# Altium footprint library 1935161.PcbLib: 1 footprints
Each footprint in its own frame and in the unit in brackets; x right, y up, seen from the top. Pads: shape width x height; smd on the part's side, far side on the other; paste and mask are expansions set on the pad; w line width, h text height; cw(c..) or ccw(c..) is an arc to the next point about the centre after c.
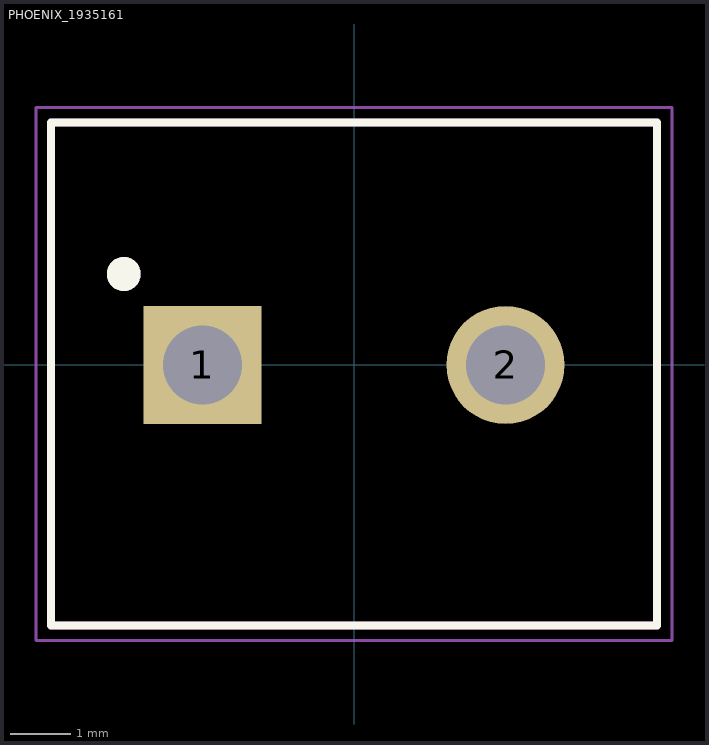
[diagram p0: the footprint, top view; thin cyan lines are the x and y axes]

## PHOENIX_1935161 [mm]
pads (2):
  rect 1.95x1.95 hole 1.3: 1(-2.5,0)
  round 1.95 hole 1.3: 2(2.5,0)
Top Overlay:
  circle w0.28: c-3.8,1.5 r0.14
  lines w0.127: -5,-4.3 -5,4 5,4 5,-4.3 -5,-4.3
Mechanical 4:
  circle w0.28: c-3.8,1.5 r0.14
  circle w0.28: c-3.8,1.5 r0.14
  lines w0.127: -5,-4.3 5,-4.3 ; -5,-4.3 -5,4 ; -5,-4.3 5,-4.3 ; -5,-4.3 -5,4 ; -5,4 5,4 ; -5,4 5,4 ; 5,-4.3 5,4 ; 5,-4.3 5,4
  text "VALUE" at -5.093,-6.616 h1.88
  text "NAME" at -5.087,4.837 h1.88
  text "VALUE" at -5.093,-6.616 h1.88
  text "NAME" at -5.087,4.837 h1.88
Mechanical 16:
  lines w0.05: -5.25,-4.55 -5.25,4.25 5.25,4.25 5.25,-4.55 -5.25,-4.55